# Altium footprint library EEG-2B-319-CLV.PCBLIB: 1 footprints
Each footprint in its own frame and in the unit in brackets; x right, y up, seen from the top. Pads: shape width x height; smd on the part's side, far side on the other; paste and mask are expansions set on the pad; w line width, h text height; cw(c..) or ccw(c..) is an arc to the next point about the centre after c.
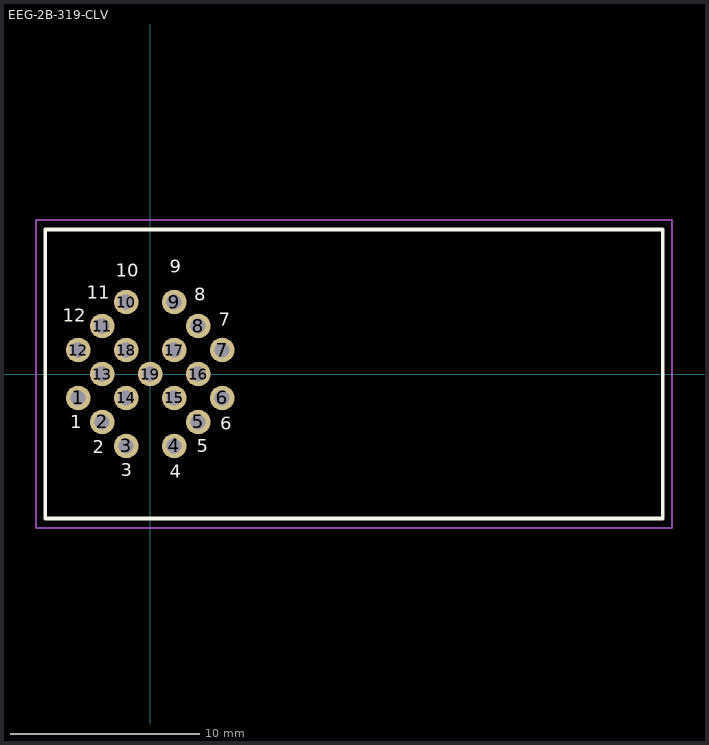
[diagram p0: the footprint, top view; thin cyan lines are the x and y axes]

## EEG-2B-319-CLV [mm]
pads (19):
  round 1.3 hole 0.8: 1(-3.81,-1.27) 2(-2.54,-2.54) 3(-1.27,-3.81) 4(1.27,-3.81) 5(2.54,-2.54) 6(3.81,-1.27) 7(3.81,1.27) 8(2.54,2.54) 9(1.27,3.81) 10(-1.27,3.81) 11(-2.54,2.54) 12(-3.81,1.27) 13(-2.54,0) 14(-1.27,-1.27) 15(1.27,-1.27) 16(2.54,0) 17(1.27,1.27) 18(-1.27,1.27) 19(0,0)
Top Overlay:
  lines w0.2: -5.55,-7.65 27.125,-7.65 27.125,7.65 -5.55,7.65 -5.55,-7.65
  text "12" at -4.628,2.539 h1.2
  text "11" at -3.342,3.739 h1.2
  text "10" at -1.828,4.896 h1.2
  text "9" at 1.044,5.121 h1.2
  text "8" at 2.347,3.646 h1.2
  text "7" at 3.623,2.321 h1.2
  text "6" at 3.718,-3.179 h1.2
  text "5" at 2.466,-4.372 h1.2
  text "4" at 1.049,-5.736 h1.2
  text "3" at -1.555,-5.654 h1.2
  text "2" at -3.033,-4.436 h1.2
  text "1" at -4.219,-3.111 h1.2
Top Courtyard:
  lines w0.1: -6.05,-8.15 27.625,-8.15 27.625,8.15 -6.05,8.15 -6.05,-8.15
3D body "SPCLM0012.STEP": height 16, standoff -11.86, extent -5.41,-7.5 27,7.5